# EAGLE library part IND108W (library IND108W)
Non-Isolated DC/DC Converters 12Vin 3-9V 108W 12A Neg Log SMT 33 mm x 13.46 mm x 10 mm Source: Datasheet <https://www.omnionpower.com/assets/pdfs/windchill/data-sheet/ind108w_ds.pdf?nocache=1710831926>
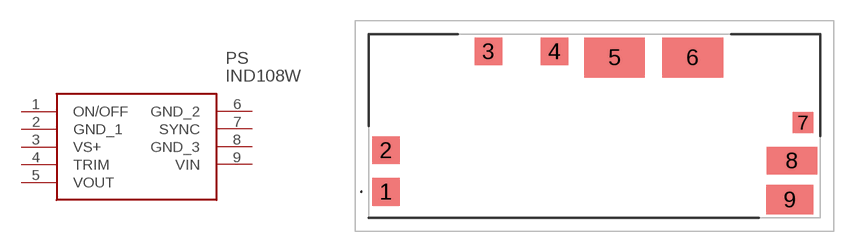
[diagram p0: symbol with the pads of IND108W; footprint IND108W]

Designator prefix PS

## IND108W (Description: Non-Isolated DC/DC Converters 12Vin 3-9V 108W 12A Neg Log SMT 33 mm x 13.46 mm x 10 mm; Height: 10mm; Manufacturer_Name: OmniOn Power; Manufacturer_Part_Number: IND108W)  [IND108W]
1  ON/OFF
2  GND_1
3  VS+
4  TRIM
5  VOUT
6  GND_2
7  SYNC
8  GND_3
9  VIN

## Footprint IND108W (pad centres in mm)
IND108W-1
smd 2.03 x 2.03: 1 -15.24,-4.82; 2 -15.24,-1.78; 3 -7.75,5.46; 4 -2.92,5.46
smd 4.45 x 2.92: 5 1.46,5.02; 6 7.18,5.02
smd 1.52 x 1.52: 7 15.24,0.26
smd 3.68 x 2.03: 8 14.43,-2.54
smd 3.43 x 2.16: 9 14.29,-5.4